# EAGLE library part MICROBUILDER_BNO080 (library Adafruit_BNO08x)
BNO080 - Motion Co-Processor
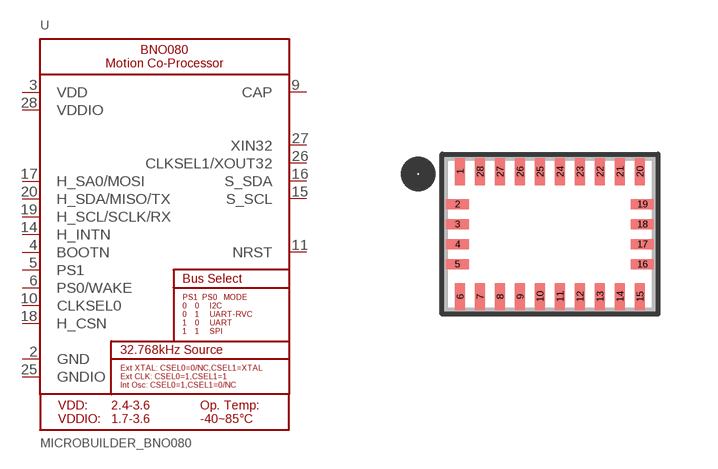
[diagram p1: symbol with the pads of MICROBUILDER_BNO080; footprint MICROBUILDER_BNO080]

Designator prefix U

## MICROBUILDER_BNO080  [MICROBUILDER_BNO080]
2  GND  pwr
3  VDD  pwr
4  BOOTN  in
5  PS1  in
6  PS0/WAKE  in
9  CAP  pas
10  CLKSEL0  in
11  NRST  in
14  H_INTN  out
15  S_SCL
16  S_SDA
17  H_SA0/MOSI  out
18  H_CSN  in
19  H_SCL/SCLK/RX
20  H_SDA/MISO/TX
25  GNDIO  pwr
26  CLKSEL1/XOUT32  out
27  XIN32  in
28  VDDIO  pwr

## Footprint MICROBUILDER_BNO080 (pad centres in mm)
smd 0.25 x 0.675: 1 -2.25,1.562; 6 -2.25,-1.562; 7 -1.75,-1.562; 8 -1.25,-1.562; 9 -0.75,-1.562; 10 -0.25,-1.562; 11 0.25,-1.562; 12 0.75,-1.562; 13 1.25,-1.562; 14 1.75,-1.562; 15 2.25,-1.562; 20 2.25,1.562; 21 1.75,1.562; 22 1.25,1.562; 23 0.75,1.562; 24 0.25,1.562; 25 -0.25,1.562; 26 -0.75,1.562; 27 -1.25,1.562; 28 -1.75,1.562
smd 0.575 x 0.25: 2 -2.312,0.75; 3 -2.312,0.25; 4 -2.312,-0.25; 5 -2.312,-0.75; 16 2.312,-0.75; 17 2.312,-0.25; 18 2.312,0.25; 19 2.312,0.75